# Altium schematic symbol library Schlib1.SchLib: 6 symbols
Pins are listed as number, name and electrical type; pins without a type are passive.

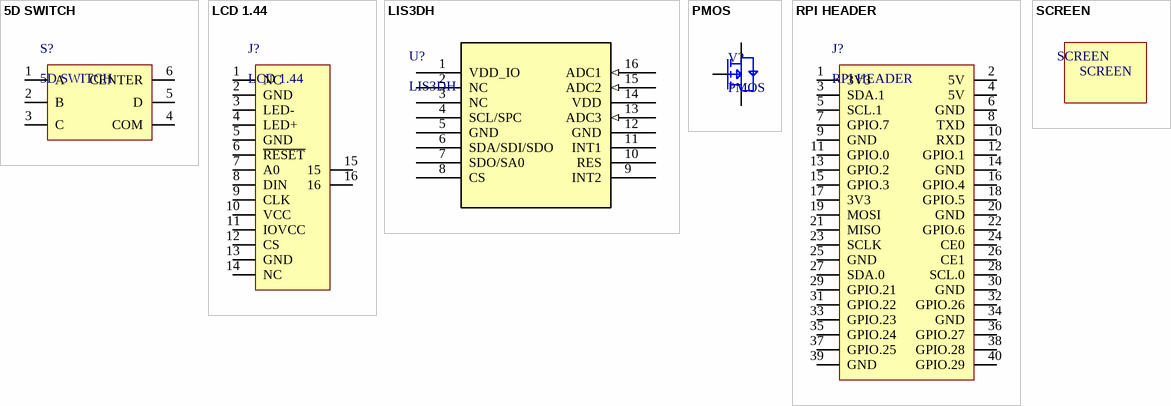
[diagram p0: symbols 5D SWITCH to SCREEN]

## 5D SWITCH
designator S?
footprint 5D SWITCH
pins: 1 A, 2 B, 3 C, 4 COM, 5 D, 6 CENTER

## LCD 1.44
designator J?
footprint FPC-14PIN-0.5
pins: 1 NC, 2 GND, 3 LED-, 4 LED+, 5 GND, 6 ~{RESET}, 7 A0, 8 DIN, 9 CLK, 10 VCC, 11 IOVCC, 12 CS, 13 GND, 14 NC, 15, 16

## LIS3DH
designator U?
No Description Available; SourceLibrary: Updates_to_database_2020-11-03; Built_By: EMA_UL_Team; Vendor: STMicroelectronics; Manufacturer_Part_Number: LIS3DH; Copyright: Copyright (C) 2021 Accelerated Designs. All rights reserved; RefDes: RefDes; Type: DEV
footprint LGA-16_3x3x1mm_STM-M
pins: 1 VDD_IO (power), 2 NC, 3 NC, 4 SCL/SPC, 5 GND (power), 6 SDA/SDI/SDO, 7 SDO/SA0, 8 CS, 9 INT2, 10 RES, 11 INT1, 12 GND (power), 13 ADC3 (in), 14 VDD (power), 15 ADC2 (in), 16 ADC1 (in)

## PMOS
designator V?
footprint SOT-23
pins: 1 G, 2 S, 3 D

## RPI HEADER
designator J?
footprint HEADER 2*20 SMD BACK (https://item.szlcsc.com/2784389.html)
pins: 1 3V3 (power), 2 5V, 3 SDA.1, 4 5V, 5 SCL.1, 6 GND, 7 GPIO.7, 8 TXD, 9 GND, 10 RXD, 11 GPIO.0, 12 GPIO.1, 13 GPIO.2, 14 GND, 15 GPIO.3, 16 GPIO.4, 17 3V3, 18 GPIO.5, 19 MOSI, 20 GND, 21 MISO, 22 GPIO.6, 23 SCLK, 24 CE0, 25 GND, 26 CE1, 27 SDA.0, 28 SCL.0, 29 GPIO.21, 30 GND, 31 GPIO.22, 32 GPIO.26, 33 GPIO.23, 34 GND, 35 GPIO.24, 36 GPIO.27, 37 GPIO.25, 38 GPIO.28, 39 GND, 40 GPIO.29

## SCREEN
designator S?
footprint SCREEN